# Altium integrated library Infineon_Power_MOSFET.IntLib: 1448 symbols (part 26 of 47)
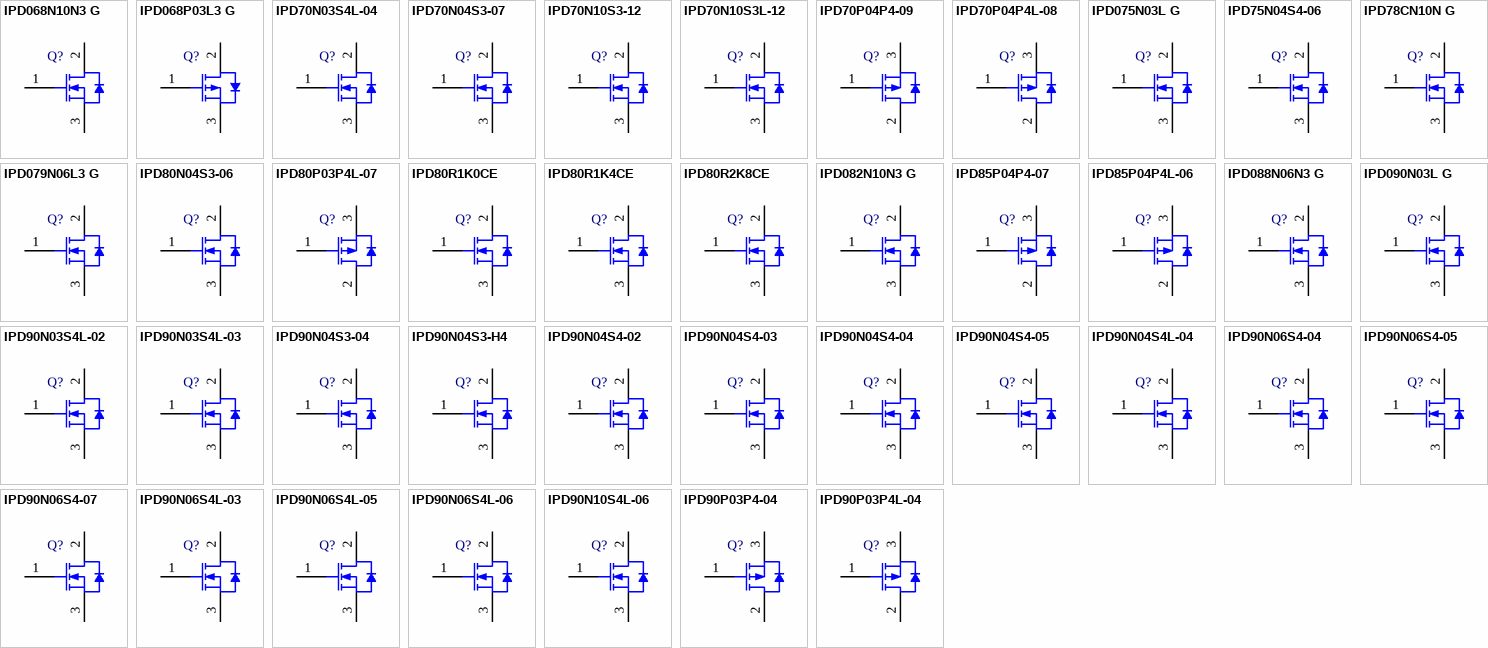
[diagram p62: symbols IPD068N10N3 G to IPD90P03P4L-04]

## IPD082N10N3 G
designator Q?
N-Channel OptiMOS 3 Power-Transistor, 100 V VDS, 80 A ID, -55 to 175 degC, PG-TO252-3-11, Reel, Green; Manufacturer: Infineon; PartNumber: IPD082N10N3 G; Green: TRUE; ID (max): 80 A; IDpuls (max): 320 A; Polarity: N; Ptot (max): 125 W; QG: 42 nC; RDS (on) (max): 8.2 mOhm; Rth: 1.2 K/W; RthJA (max): 62 K/W; VDS (max): 100 V; VGS(th) (max): 3.5 V; VGS(th) (min): 2 V; DatasheetVersion: Rev. 2.5; PackageVersion: Rev. 02, 03/2007; PackageReference: PG-TO252-3-11; PackageDescription: 3-Pin Plastic (Green) Transistor Single Outline Package, 6.57 x 6.1 mm Body, 2.29 mm Pitch; Supplier 1: Mouser; Supplier Part Number 1: 726-IPD082N10N3G; Supplier 2: Digi-Key; Supplier Part Number 2: IPD082N10N3 G-ND; Packing: Reel; RthJC (max): 1.2 K/W; Mounting Technology: Surface Mount; ComponentLink1Description: Manufacturer URL; ComponentLink1URL: http://www.infineon.com/; ComponentLink2Description: Datasheet; ComponentLink2URL: http://www.infineon.com/dgdl/IPP086N10N3+G_Rev2.5.pdf?folderId=db3a304313b8b5a60113cee8763b02d7&fileId=db3a30431ce5fb52011d1ac5c8fa1358; ComponentLink3Description: Package Specification; ComponentLink3URL: http://www.infineon.com/dgdl/IPD160N04L_rev1.0.pdf?folderId=db3a3043163797a6011643468e7505a4&fileId=db3a3043163797a60116436401cf05cf
footprint INF-PG-TO252-3-11_A_N (DPAK, 3-Leads, Body 6.57x6.1mm, Pitch 2.29mm, IPC Medium Density)
footprint INF-PG-TO252-3-11_A_L (DPAK, 3-Leads, Body 6.57x6.1mm, Pitch 2.29mm, IPC High Density)
footprint INF-PG-TO252-3-11_A_M (DPAK, 3-Leads, Body 6.57x6.1mm, Pitch 2.29mm, IPC Low Density)
pins: 1 GATE, 2 DRAIN, 3 SOURCE

## IPD85P04P4-07
designator Q?
OptiMOS-P2 Power-Transistor, -40 V VDS, -85 A ID, PG-TO252-3-313, Reel, Green; Manufacturer: Infineon; PartNumber: IPD85P04P4-07; Green: TRUE; ID (max): -85 A; IDpuls (max): -340 A; Ptot (max): 88 W; QG: 69 nC; RDS (on) (max) (@10V): 7.3 mOhm; RthJC (max): 1.7 K/W; VDS (max): -40 V; VGS(th) (max): -4 V; VGS(th) (min): -2 V; DatasheetVersion: Rev. 1.0; PackageVersion: Oct-10; PackageReference: PG-TO252-3-313; PackageDescription: 3-Pin Plastic (Green) Transistor Single Outline Package, 6.5 x 6.12 mm Body, 2.28 mm Pitch; Supplier 1: Mouser; Supplier Part Number 1: 726-IPD85P04P4-07; Halogen-free: TRUE; Packing: Reel; Technology: OptiMOS-P2; Mounting Technology: Surface Mount; ComponentLink1Description: Manufacturer URL; ComponentLink1URL: http://www.infineon.com/; ComponentLink2Description: Datasheet; ComponentLink2URL: http://www.infineon.com/dgdl/IPD85P04P4-07_DS_10.pdf?folderId=db3a304412b407950112b42b75b74520&fileId=db3a30432f69f146012f782666e92ddd&location=en.Products.Automotive_ICs.Automotive_MOSFETs.Single__P-Channel_40V_MOSFETs.DATASHEET.IPD85P04P4-07_DS_10.pdf; ComponentLink3Description: Package Specification; ComponentLink3URL: http://www.infineon.com/dgdl/PG-TO252-3-313-Package_Overview.pdf?folderId=db3a30432b57a660012b81890ade72d2&fileId=db3a30432b57a660012b8193af2872eb
footprint INF-PG-TO252-3-313_N (DPAK, 3-Leads, Body 6.5x6.12mm, Pitch 2.28mm, IPC Medium Density)
footprint INF-PG-TO252-3-313_L (DPAK, 3-Leads, Body 6.5x6.12mm, Pitch 2.28mm, IPC High Density)
footprint INF-PG-TO252-3-313_M (DPAK, 3-Leads, Body 6.5x6.12mm, Pitch 2.28mm, IPC Low Density)
pins: 1 GATE, 2 DRAIN, 3 SOURCE

## IPD85P04P4L-06
designator Q?
OptiMOS-P2 Power-Transistor, -40 V VDS, -85 A ID, PG-TO252-3-313, Reel, Green; Manufacturer: Infineon; PartNumber: IPD85P04P4L-06; Green: TRUE; ID (max): -85 A; IDpuls (max): -340 A; Ptot (max): 88 W; QG: 80 nC; RDS (on) (max) (@10V): 6.4 mOhm; RDS (on) (max) (@4.5V): 10.3 mOhm; RthJC (max): 1.7 K/W; VDS (max): -40 V; VGS(th) (max): -2.2 V; VGS(th) (min): -1.2 V; DatasheetVersion: Rev. 1.0; PackageVersion: Oct-10; PackageReference: PG-TO252-3-313; PackageDescription: 3-Pin Plastic (Green) Transistor Single Outline Package, 6.5 x 6.12 mm Body, 2.28 mm Pitch; Supplier 1: Mouser; Supplier Part Number 1: 726-IPD85P04P4L-06; Halogen-free: TRUE; Packing: Reel; Technology: OptiMOS-P2; Mounting Technology: Surface Mount; ComponentLink1Description: Manufacturer URL; ComponentLink1URL: http://www.infineon.com/; ComponentLink2Description: Datasheet; ComponentLink2URL: http://www.infineon.com/dgdl/IPD85P04P4L-06_DS10.pdf?folderId=db3a304412b407950112b42b75b74520&fileId=db3a30432f69f146012f7824648a2dc9&location=en.Products.Automotive_ICs.Automotive_MOSFETs.Single__P-Channel_40V_MOSFETs.DATASHEET.IPD85P04P4L-06_DS10.pdf; ComponentLink3Description: Package Specification; ComponentLink3URL: http://www.infineon.com/dgdl/PG-TO252-3-313-Package_Overview.pdf?folderId=db3a30432b57a660012b81890ade72d2&fileId=db3a30432b57a660012b8193af2872eb
footprint INF-PG-TO252-3-313_N (DPAK, 3-Leads, Body 6.5x6.12mm, Pitch 2.28mm, IPC Medium Density)
footprint INF-PG-TO252-3-313_L (DPAK, 3-Leads, Body 6.5x6.12mm, Pitch 2.28mm, IPC High Density)
footprint INF-PG-TO252-3-313_M (DPAK, 3-Leads, Body 6.5x6.12mm, Pitch 2.28mm, IPC Low Density)
pins: 1 GATE, 2 DRAIN, 3 SOURCE

## IPD088N06N3 G
designator Q?
N-Channel OptiMOS 3 Power-Transistor, 60 V VDS, 50 A ID, -55 to 175 degC, PG-TO252-3-11, Reel, Green; Manufacturer: Infineon; PartNumber: IPD088N06N3 G; Green: TRUE; ID (max): 50 A; IDpuls (max): 200 A; Polarity: N; Ptot (max): 71 W; QG: 36 nC; RDS (on) (max): 8.8 mOhm; Rth: 2.1 K/W; RthJA (max): 62 K/W; VDS (max): 60 V; VGS(th) (max): 4 V; VGS(th) (min): 2 V; DatasheetVersion: Rev. 2.0; PackageVersion: Rev. 02, 03/2007; PackageReference: PG-TO252-3-11; PackageDescription: 3-Pin Plastic (Green) Transistor Single Outline Package, 6.57 x 6.1 mm Body, 2.29 mm Pitch; Supplier 1: Mouser; Supplier Part Number 1: 726-IPD088N06N3G; Supplier 2: Digi-Key; Supplier Part Number 2: IPD088N06N3 GTR-ND; Supplier 3: Digi-Key; Supplier Part Number 3: IPD088N06N3 GCT-ND; Supplier 4: Digi-Key; Supplier Part Number 4: IPD088N06N3 GDKR-ND; Packing: Reel; RthJC (max): 2.1 K/W; Mounting Technology: Surface Mount; ComponentLink1Description: Manufacturer URL; ComponentLink1URL: http://www.infineon.com/; ComponentLink2Description: Datasheet; ComponentLink2URL: http://www.infineon.com/dgdl/IPD088N06N3_Rev2.pdf?folderId=db3a30431441fb5d01148ca9f1be0e77&fileId=db3a30431ddc9372011e2b2351db4d5c; ComponentLink3Description: Package Specification; ComponentLink3URL: http://www.infineon.com/dgdl/IPD160N04L_rev1.0.pdf?folderId=db3a3043163797a6011643468e7505a4&fileId=db3a3043163797a60116436401cf05cf
footprint INF-PG-TO252-3-11_A_N (DPAK, 3-Leads, Body 6.57x6.1mm, Pitch 2.29mm, IPC Medium Density)
footprint INF-PG-TO252-3-11_A_L (DPAK, 3-Leads, Body 6.57x6.1mm, Pitch 2.29mm, IPC High Density)
footprint INF-PG-TO252-3-11_A_M (DPAK, 3-Leads, Body 6.57x6.1mm, Pitch 2.29mm, IPC Low Density)
pins: 1 GATE, 2 DRAIN, 3 SOURCE

## IPD090N03L G
designator Q?
N-Channel OptiMOS 3 Power-Transistor, 30 V VDS, 40 A ID, -55 to 175 degC, PG-TO252-3-11, Reel, Green; Manufacturer: Infineon; PartNumber: IPD090N03L G; Green: TRUE; ID (max): 40 A; IDpuls (max): 280 A; Polarity: N; Ptot (max): 42 W; QG: 7.4 nC; RDS (on) (max): 9 mOhm; RDS (on) (max) (@4.5V): 13.5 mOhm; Rth: 3.6 K/W; RthJA (max): 75 K/W; VDS (max): 30 V; VGS(th) (max): 2.2 V; VGS(th) (min): 1 V; DatasheetVersion: Rev. 2.0; PackageVersion: Rev. 02, 03/2007; PackageReference: PG-TO252-3-11; PackageDescription: 3-Pin Plastic (Green) Transistor Single Outline Package, 6.57 x 6.1 mm Body, 2.29 mm Pitch; Supplier 1: Newark; Supplier Part Number 1: 60R2696; Supplier 2: Farnell; Supplier Part Number 2: 1775578; Supplier 3: Digi-Key; Supplier Part Number 3: IPD090N03LGINTR-ND; Supplier 4: Digi-Key; Supplier Part Number 4: IPD090N03LGINCT-ND; Supplier 5: Digi-Key; Supplier Part Number 5: IPD090N03LGINDKR-ND; Halogen-free: TRUE; Packing: Reel; RthJC (max): 3.6 K/W; Mounting Technology: Surface Mount; ComponentLink1Description: Manufacturer URL; ComponentLink1URL: http://www.infineon.com/; ComponentLink2Description: Datasheet; ComponentLink2URL: http://www.infineon.com/dgdl/IPD090N03LG_rev2_.pdf?folderId=db3a304313b8b5a60113cee8763b02d7&fileId=db3a30432313ff5e01239eac54cb707b; ComponentLink3Description: Package Specification; ComponentLink3URL: http://www.infineon.com/dgdl/IPD160N04L_rev1.0.pdf?folderId=db3a3043163797a6011643468e7505a4&fileId=db3a3043163797a60116436401cf05cf
footprint INF-PG-TO252-3-11_A_N (DPAK, 3-Leads, Body 6.57x6.1mm, Pitch 2.29mm, IPC Medium Density)
footprint INF-PG-TO252-3-11_A_L (DPAK, 3-Leads, Body 6.57x6.1mm, Pitch 2.29mm, IPC High Density)
footprint INF-PG-TO252-3-11_A_M (DPAK, 3-Leads, Body 6.57x6.1mm, Pitch 2.29mm, IPC Low Density)
pins: 1 GATE, 2 DRAIN, 3 SOURCE

## IPD90N03S4L-02
designator Q?
OptiMOS-T2 Power-Transistor, 30 V VDS, 90 A ID, PG-TO252-3-11, Reel, Green; Manufacturer: Infineon; PartNumber: IPD90N03S4L-02; Green: TRUE; ID (max): 90 A; IDpuls (max): 360 A; Ptot (max): 136 W; QG: 110 nC; RDS (on) (max) (@10V): 2.2 mOhm; RDS (on) (max) (@4.5V): 2.6 mOhm; RthJC (max): 1.1 K/W; VDS (max): 30 V; VGS(th) (max): 2.2 V; VGS(th) (min): 1 V; DatasheetVersion: Rev. 3.0; PackageVersion: Dec-06; PackageReference: PG-TO252-3-11; PackageDescription: 3-Pin Plastic (Green) Transistor Single Outline Package, 6.5 x 6.12 mm Body, 2.28 mm Pitch; Supplier 1: Mouser; Supplier Part Number 1: 726-IPD90N03S4L-02; Supplier 2: Digi-Key; Supplier Part Number 2: IPD90N03S4L-02TR-ND; Supplier 3: Digi-Key; Supplier Part Number 3: IPD90N03S4L-02CT-ND; Supplier 4: Digi-Key; Supplier Part Number 4: IPD90N03S4L-02DKR-ND; Halogen-free: TRUE; Packing: Reel; Technology: OptiMOS-T2; Mounting Technology: Surface Mount; ComponentLink1Description: Manufacturer URL; ComponentLink1URL: http://www.infineon.com/; ComponentLink2Description: Datasheet; ComponentLink2URL: http://www.infineon.com/dgdl/IPD90N03S4L-02_DS_3_0.pdf?folderId=db3a304412b407950112b426f7da3b27&fileId=db3a304412b407950112b426fa9d3b33&location=en.Products.Automotive_ICs.Automotive_MOSFETs.Single__N-Channel_30V_MOSFETs.DATASHEET.IPD90N03S4L-02_DS_3_0.pdf; ComponentLink3Description: Package Specification; ComponentLink3URL: http://www.infineon.com/dgdl/BTS142_DS_13.pdf?folderId=db3a3043163797a6011667aa084c0e01&fileId=db3a3043163797a6011667ac98be0e02&location=en.Products.Automotive_ICs.Smart_High-_and_Low-Side_Switches.HITFET___TEMPFET__-_Smart_Low-Side_Switches.DATASHEET.BTS142_DS_13.pdf
footprint INF-PG-TO252-3-11_N (DPAK, 3-Leads, Body 6.5x6.12mm, Pitch 2.28mm, IPC Medium Density)
footprint INF-PG-TO252-3-11_L (DPAK, 3-Leads, Body 6.5x6.12mm, Pitch 2.28mm, IPC High Density)
footprint INF-PG-TO252-3-11_M (DPAK, 3-Leads, Body 6.5x6.12mm, Pitch 2.28mm, IPC Low Density)
pins: 1 GATE, 2 DRAIN, 3 SOURCE

## IPD90N03S4L-03
designator Q?
OptiMOS-T2 Power-Transistor, 30 V VDS, 90 A ID, PG-TO252-3-11, Reel, Green; Manufacturer: Infineon; PartNumber: IPD90N03S4L-03; Green: TRUE; ID (max): 90 A; IDpuls (max): 360 A; Ptot (max): 94 W; QG: 60 nC; RDS (on) (max) (@10V): 3.3 mOhm; RDS (on) (max) (@4.5V): 4.4 mOhm; RthJC (max): 1.6 K/W; VDS (max): 30 V; VGS(th) (max): 2.2 V; VGS(th) (min): 1 V; DatasheetVersion: Rev. 2.1; PackageVersion: Dec-06; PackageReference: PG-TO252-3-11; PackageDescription: 3-Pin Plastic (Green) Transistor Single Outline Package, 6.5 x 6.12 mm Body, 2.28 mm Pitch; Supplier 1: Mouser; Supplier Part Number 1: 726-IPD90N03S4L-03; Supplier 2: Digi-Key; Supplier Part Number 2: IPD90N03S4L-03INTR-ND; Supplier 3: Digi-Key; Supplier Part Number 3: IPD90N03S4L-03INCT-ND; Supplier 4: Digi-Key; Supplier Part Number 4: IPD90N03S4L-03INDKR-ND; Halogen-free: TRUE; Packing: Reel; Technology: OptiMOS-T2; Mounting Technology: Surface Mount; ComponentLink1Description: Manufacturer URL; ComponentLink1URL: http://www.infineon.com/; ComponentLink2Description: Datasheet; ComponentLink2URL: http://www.infineon.com/dgdl/IPD90N03S4L-03_DS_2_1.pdf?folderId=db3a304412b407950112b426f7da3b27&fileId=db3a304412b407950112b426fe803b44&location=en.Products.Automotive_ICs.Automotive_MOSFETs.Single__N-Channel_30V_MOSFETs.DATASHEET.IPD90N03S4L-03_DS_2_1.pdf; ComponentLink3Description: Package Specification; ComponentLink3URL: http://www.infineon.com/dgdl/BTS142_DS_13.pdf?folderId=db3a3043163797a6011667aa084c0e01&fileId=db3a3043163797a6011667ac98be0e02&location=en.Products.Automotive_ICs.Smart_High-_and_Low-Side_Switches.HITFET___TEMPFET__-_Smart_Low-Side_Switches.DATASHEET.BTS142_DS_13.pdf
footprint INF-PG-TO252-3-11_N (DPAK, 3-Leads, Body 6.5x6.12mm, Pitch 2.28mm, IPC Medium Density)
footprint INF-PG-TO252-3-11_L (DPAK, 3-Leads, Body 6.5x6.12mm, Pitch 2.28mm, IPC High Density)
footprint INF-PG-TO252-3-11_M (DPAK, 3-Leads, Body 6.5x6.12mm, Pitch 2.28mm, IPC Low Density)
pins: 1 GATE, 2 DRAIN, 3 SOURCE

## IPD90N04S3-04
designator Q?
OptiMOS-T Power-Transistor, 40 V VDS, 90 A ID, PG-TO252-3-11, Reel, Green; Manufacturer: Infineon; PartNumber: IPD90N04S3-04; Green: TRUE; ID (max): 90 A; IDpuls (max): 360 A; Ptot (max): 136 W; QG: 60 nC; RDS (on) (max) (@10V): 3.6 mOhm; RthJC (max): 1.1 K/W; VDS (max): 40 V; VGS(th) (max): 4 V; VGS(th) (min): 2.1 V; DatasheetVersion: Rev. 1.0; PackageVersion: Dec-06; PackageReference: PG-TO252-3-11; PackageDescription: 3-Pin Plastic (Green) Transistor Single Outline Package, 6.5 x 6.12 mm Body, 2.28 mm Pitch; Supplier 1: Mouser; Supplier Part Number 1: 726-IPD90N04S3-04; Supplier 2: Digi-Key; Supplier Part Number 2: IPD90N04S3-04TR-ND; Supplier 3: Digi-Key; Supplier Part Number 3: IPD90N04S3-04CT-ND; Supplier 4: Digi-Key; Supplier Part Number 4: IPD90N04S3-04DKR-ND; Halogen-free: TRUE; Packing: Reel; Technology: OptiMOS-T; Mounting Technology: Surface Mount; ComponentLink1Description: Manufacturer URL; ComponentLink1URL: http://www.infineon.com/; ComponentLink2Description: Datasheet; ComponentLink2URL: http://www.infineon.com/dgdl/IPD90N04S3-04_DS_1_0.pdf?folderId=db3a304412b407950112b42b75b74520&fileId=db3a304412b407950112b42ba3ee45a2&location=en.Products.Automotive_ICs.Automotive_MOSFETs.Single__N-Channel_40V_MOSFETs.DATASHEET.IPD90N04S3-04_DS_1_0.pdf; ComponentLink3Description: Package Specification; ComponentLink3URL: http://www.infineon.com/dgdl/BTS142_DS_13.pdf?folderId=db3a3043163797a6011667aa084c0e01&fileId=db3a3043163797a6011667ac98be0e02&location=en.Products.Automotive_ICs.Smart_High-_and_Low-Side_Switches.HITFET___TEMPFET__-_Smart_Low-Side_Switches.DATASHEET.BTS142_DS_13.pdf
footprint INF-PG-TO252-3-11_N (DPAK, 3-Leads, Body 6.5x6.12mm, Pitch 2.28mm, IPC Medium Density)
footprint INF-PG-TO252-3-11_L (DPAK, 3-Leads, Body 6.5x6.12mm, Pitch 2.28mm, IPC High Density)
footprint INF-PG-TO252-3-11_M (DPAK, 3-Leads, Body 6.5x6.12mm, Pitch 2.28mm, IPC Low Density)
pins: 1 GATE, 2 DRAIN, 3 SOURCE

## IPD90N04S3-H4
designator Q?
OptiMOS-T Power-Transistor, 40 V VDS, 90 A ID, PG-TO252-3-11, Reel, Green; Manufacturer: Infineon; PartNumber: IPD90N04S3-H4; Green: TRUE; ID (max): 90 A; IDpuls (max): 360 A; Ptot (max): 115 W; QG: 46 nC; RDS (on) (max) (@10V): 4.3 mOhm; RDS (on) (max) (@4.5V): 0 mOhm; RthJC (max): 1.3 K/W; VDS (max): 40 V; VGS(th) (max): 4 V; VGS(th) (min): 2.1 V; DatasheetVersion: Rev. 1.0; PackageVersion: Dec-06; PackageReference: PG-TO252-3-11; PackageDescription: 3-Pin Plastic (Green) Transistor Single Outline Package, 6.5 x 6.12 mm Body, 2.28 mm Pitch; Supplier 1: Mouser; Supplier Part Number 1: 726-IPD90N04S3-H4; Supplier 2: Digi-Key; Supplier Part Number 2: IPD90N04S3-H4-ND; Halogen-free: TRUE; Packing: Reel; Technology: OptiMOS-T; Mounting Technology: Surface Mount; ComponentLink1Description: Manufacturer URL; ComponentLink1URL: http://www.infineon.com/; ComponentLink2Description: Datasheet; ComponentLink2URL: http://www.infineon.com/dgdl/p1.pdf?folderId=db3a304412b407950112b42b75b74520&fileId=db3a30431b3e89eb011bb762b9c4070c&location=en.Products.Automotive_ICs.Automotive_MOSFETs.Single__N-Channel_40V_MOSFETs.DATASHEET.p1.pdf; ComponentLink3Description: Package Specification; ComponentLink3URL: http://www.infineon.com/dgdl/BTS142_DS_13.pdf?folderId=db3a3043163797a6011667aa084c0e01&fileId=db3a3043163797a6011667ac98be0e02&location=en.Products.Automotive_ICs.Smart_High-_and_Low-Side_Switches.HITFET___TEMPFET__-_Smart_Low-Side_Switches.DATASHEET.BTS142_DS_13.pdf
footprint INF-PG-TO252-3-11_N (DPAK, 3-Leads, Body 6.5x6.12mm, Pitch 2.28mm, IPC Medium Density)
footprint INF-PG-TO252-3-11_L (DPAK, 3-Leads, Body 6.5x6.12mm, Pitch 2.28mm, IPC High Density)
footprint INF-PG-TO252-3-11_M (DPAK, 3-Leads, Body 6.5x6.12mm, Pitch 2.28mm, IPC Low Density)
pins: 1 GATE, 2 DRAIN, 3 SOURCE

## IPD90N04S4-02
designator Q?
OptiMOS-T2 Power-Transistor, 40 V VDS, 90 A ID, PG-TO252-3-313, Reel, Green; Manufacturer: Infineon; PartNumber: IPD90N04S4-02; Green: TRUE; ID (max): 90 A; IDpuls (max): 360 A; Ptot (max): 150 W; QG: 91 nC; RDS (on) (max) (@10V): 2.4 mOhm; RthJC (max): 1 K/W; VDS (max): 40 V; VGS(th) (max): 4 V; VGS(th) (min): 2 V; DatasheetVersion: Rev. 1.0; PackageVersion: Oct-10; PackageReference: PG-TO252-3-313; PackageDescription: 3-Pin Plastic (Green) Transistor Single Outline Package, 6.5 x 6.12 mm Body, 2.28 mm Pitch; Supplier 1: Mouser; Supplier Part Number 1: 726-IPD90N04S4-02; Supplier 2: Digi-Key; Supplier Part Number 2: IPD90N04S4-02-ND; Halogen-free: TRUE; Packing: Reel; Technology: OptiMOS-T2; Mounting Technology: Surface Mount; ComponentLink1Description: Manufacturer URL; ComponentLink1URL: http://www.infineon.com/; ComponentLink2Description: Datasheet; ComponentLink2URL: http://www.infineon.com/dgdl/IPD90N04S4-02_DS_1_0.pdf?folderId=db3a304412b407950112b42b75b74520&fileId=db3a304328c6bd5c01291c8ad7945e5c&location=en.Products.Automotive_ICs.Automotive_MOSFETs.Single__N-Channel_40V_MOSFETs.DATASHEET.IPD90N04S4-02_DS_1_0.pdf; ComponentLink3Description: Package Specification; ComponentLink3URL: http://www.infineon.com/dgdl/PG-TO252-3-313-Package_Overview.pdf?folderId=db3a30432b57a660012b81890ade72d2&fileId=db3a30432b57a660012b8193af2872eb
footprint INF-PG-TO252-3-313_N (DPAK, 3-Leads, Body 6.5x6.12mm, Pitch 2.28mm, IPC Medium Density)
footprint INF-PG-TO252-3-313_L (DPAK, 3-Leads, Body 6.5x6.12mm, Pitch 2.28mm, IPC High Density)
footprint INF-PG-TO252-3-313_M (DPAK, 3-Leads, Body 6.5x6.12mm, Pitch 2.28mm, IPC Low Density)
pins: 1 GATE, 2 DRAIN, 3 SOURCE

## IPD90N04S4-03
designator Q?
OptiMOS-T2 Power-Transistor, 40 V VDS, 90 A ID, PG-TO252-3-313, Reel, Green; Manufacturer: Infineon; PartNumber: IPD90N04S4-03; Green: TRUE; ID (max): 90 A; IDpuls (max): 360 A; Ptot (max): 94 W; QG: 51 nC; RDS (on) (max) (@10V): 3.2 mOhm; RthJC (max): 1.6 K/W; VDS (max): 40 V; VGS(th) (max): 4 V; VGS(th) (min): 2 V; DatasheetVersion: Rev. 1.0; PackageVersion: Oct-10; PackageReference: PG-TO252-3-313; PackageDescription: 3-Pin Plastic (Green) Transistor Single Outline Package, 6.5 x 6.12 mm Body, 2.28 mm Pitch; Supplier 1: Mouser; Supplier Part Number 1: 726-IPD90N04S4-03; Supplier 2: Digi-Key; Supplier Part Number 2: IPD90N04S4-03-ND; Halogen-free: TRUE; Packing: Reel; Technology: OptiMOS-T2; Mounting Technology: Surface Mount; ComponentLink1Description: Manufacturer URL; ComponentLink1URL: http://www.infineon.com/; ComponentLink2Description: Datasheet; ComponentLink2URL: http://www.infineon.com/dgdl/IPD90N04S4-03_DS_1_0.pdf?folderId=db3a304412b407950112b42b75b74520&fileId=db3a304328c6bd5c01291ca399955e75&location=en.Products.Automotive_ICs.Automotive_MOSFETs.Single__N-Channel_40V_MOSFETs.DATASHEET.IPD90N04S4-03_DS_1_0.pdf; ComponentLink3Description: Package Specification; ComponentLink3URL: http://www.infineon.com/dgdl/PG-TO252-3-313-Package_Overview.pdf?folderId=db3a30432b57a660012b81890ade72d2&fileId=db3a30432b57a660012b8193af2872eb
footprint INF-PG-TO252-3-313_N (DPAK, 3-Leads, Body 6.5x6.12mm, Pitch 2.28mm, IPC Medium Density)
footprint INF-PG-TO252-3-313_L (DPAK, 3-Leads, Body 6.5x6.12mm, Pitch 2.28mm, IPC High Density)
footprint INF-PG-TO252-3-313_M (DPAK, 3-Leads, Body 6.5x6.12mm, Pitch 2.28mm, IPC Low Density)
pins: 1 GATE, 2 DRAIN, 3 SOURCE

## IPD90N04S4-04
designator Q?
OptiMOS-T2 Power-Transistor, 40 V VDS, 90 A ID, PG-TO252-3-313, Reel, Green; Manufacturer: Infineon; PartNumber: IPD90N04S4-04; Green: TRUE; ID (max): 90 A; IDpuls (max): 360 A; Ptot (max): 71 W; QG: 33 nC; RDS (on) (max) (@10V): 4.1 mOhm; RthJC (max): 2.1 K/W; VDS (max): 40 V; VGS(th) (max): 4 V; VGS(th) (min): 2 V; DatasheetVersion: Rev. 1.0; PackageVersion: Oct-10; PackageReference: PG-TO252-3-313; PackageDescription: 3-Pin Plastic (Green) Transistor Single Outline Package, 6.5 x 6.12 mm Body, 2.28 mm Pitch; Supplier 1: Mouser; Supplier Part Number 1: 726-IPD90N04S4-04; Supplier 2: Digi-Key; Supplier Part Number 2: IPD90N04S4-04-ND; Halogen-free: TRUE; Packing: Reel; Technology: OptiMOS-T2; Mounting Technology: Surface Mount; ComponentLink1Description: Manufacturer URL; ComponentLink1URL: http://www.infineon.com/; ComponentLink2Description: Datasheet; ComponentLink2URL: http://www.infineon.com/dgdl/IPD90N04S4-04_DS_1_0.pdf?folderId=db3a304412b407950112b42b75b74520&fileId=db3a304328c6bd5c01291ca629525e87&location=en.Products.Automotive_ICs.Automotive_MOSFETs.Single__N-Channel_40V_MOSFETs.DATASHEET.IPD90N04S4-04_DS_1_0.pdf; ComponentLink3Description: Package Specification; ComponentLink3URL: http://www.infineon.com/dgdl/PG-TO252-3-313-Package_Overview.pdf?folderId=db3a30432b57a660012b81890ade72d2&fileId=db3a30432b57a660012b8193af2872eb
footprint INF-PG-TO252-3-313_N (DPAK, 3-Leads, Body 6.5x6.12mm, Pitch 2.28mm, IPC Medium Density)
footprint INF-PG-TO252-3-313_L (DPAK, 3-Leads, Body 6.5x6.12mm, Pitch 2.28mm, IPC High Density)
footprint INF-PG-TO252-3-313_M (DPAK, 3-Leads, Body 6.5x6.12mm, Pitch 2.28mm, IPC Low Density)
pins: 1 GATE, 2 DRAIN, 3 SOURCE

## IPD90N04S4-05
designator Q?
OptiMOS-T2 Power-Transistor, 40 V VDS, 86 A ID, PG-TO252-3-313, Reel, Green; Manufacturer: Infineon; PartNumber: IPD90N04S4-05; Green: TRUE; ID (max): 90 A; IDpuls (max): 344 A; Ptot (max): 65 W; QG: 33 nC; RDS (on) (max) (@10V): 5.2 mOhm; RthJC (max): 2.3 K/W; VDS (max): 40 V; VGS(th) (max): 4 V; VGS(th) (min): 2 V; DatasheetVersion: Rev. 1.0; PackageVersion: Oct-10; PackageReference: PG-TO252-3-313; PackageDescription: 3-Pin Plastic (Green) Transistor Single Outline Package, 6.5 x 6.12 mm Body, 2.28 mm Pitch; Supplier 1: Mouser; Supplier Part Number 1: 726-IPD90N04S4-05; Supplier 2: Digi-Key; Supplier Part Number 2: IPD90N04S4-05-ND; Halogen-free: TRUE; Packing: Reel; Technology: OptiMOS-T2; Mounting Technology: Surface Mount; ComponentLink1Description: Manufacturer URL; ComponentLink1URL: http://www.infineon.com/; ComponentLink2Description: Datasheet; ComponentLink2URL: http://www.infineon.com/dgdl/IPD90N04S4-05_DS_1_0.pdf?folderId=db3a304412b407950112b42b75b74520&fileId=db3a304328c6bd5c01291ca8f57f5e9a&location=en.Products.Automotive_ICs.Automotive_MOSFETs.Single__N-Channel_40V_MOSFETs.DATASHEET.IPD90N04S4-05_DS_1_0.pdf; ComponentLink3Description: Package Specification; ComponentLink3URL: http://www.infineon.com/dgdl/PG-TO252-3-313-Package_Overview.pdf?folderId=db3a30432b57a660012b81890ade72d2&fileId=db3a30432b57a660012b8193af2872eb
footprint INF-PG-TO252-3-313_N (DPAK, 3-Leads, Body 6.5x6.12mm, Pitch 2.28mm, IPC Medium Density)
footprint INF-PG-TO252-3-313_L (DPAK, 3-Leads, Body 6.5x6.12mm, Pitch 2.28mm, IPC High Density)
footprint INF-PG-TO252-3-313_M (DPAK, 3-Leads, Body 6.5x6.12mm, Pitch 2.28mm, IPC Low Density)
pins: 1 GATE, 2 DRAIN, 3 SOURCE

## IPD90N04S4L-04
designator Q?
OptiMOS-T2 Power-Transistor, 40 V VDS, 90 A ID, PG-TO252-3-313, Reel, Green; Manufacturer: Infineon; PartNumber: IPD90N04S4L-04; Green: TRUE; ID (max): 90 A; IDpuls (max): 360 A; Ptot (max): 71 W; QG: 46 nC; RDS (on) (max) (@10V): 3.8 mOhm; RDS (on) (max) (@4.5V): 5.5 mOhm; RthJC (max): 2.1 K/W; VDS (max): 40 V; VGS(th) (max): 2.2 V; VGS(th) (min): 1.2 V; DatasheetVersion: Rev. 1.0; PackageVersion: Oct-10; PackageReference: PG-TO252-3-313; PackageDescription: 3-Pin Plastic (Green) Transistor Single Outline Package, 6.5 x 6.12 mm Body, 2.28 mm Pitch; Supplier 1: Mouser; Supplier Part Number 1: 726-IPD90N04S4L-04; Supplier 2: Digi-Key; Supplier Part Number 2: IPD90N04S4L-04-ND; Halogen-free: TRUE; Packing: Reel; Technology: OptiMOS-T2; Mounting Technology: Surface Mount; ComponentLink1Description: Manufacturer URL; ComponentLink1URL: http://www.infineon.com/; ComponentLink2Description: Datasheet; ComponentLink2URL: http://www.infineon.com/dgdl/IPD90N04S4L-04_DS_1_0.pdf?folderId=db3a304412b407950112b42b75b74520&fileId=db3a304328c6bd5c01291cab92685eaa&location=en.Products.Automotive_ICs.Automotive_MOSFETs.Single__N-Channel_40V_MOSFETs.DATASHEET.IPD90N04S4L-04_DS_1_0.pdf; ComponentLink3Description: Package Specification; ComponentLink3URL: http://www.infineon.com/dgdl/PG-TO252-3-313-Package_Overview.pdf?folderId=db3a30432b57a660012b81890ade72d2&fileId=db3a30432b57a660012b8193af2872eb
footprint INF-PG-TO252-3-313_N (DPAK, 3-Leads, Body 6.5x6.12mm, Pitch 2.28mm, IPC Medium Density)
footprint INF-PG-TO252-3-313_L (DPAK, 3-Leads, Body 6.5x6.12mm, Pitch 2.28mm, IPC High Density)
footprint INF-PG-TO252-3-313_M (DPAK, 3-Leads, Body 6.5x6.12mm, Pitch 2.28mm, IPC Low Density)
pins: 1 GATE, 2 DRAIN, 3 SOURCE

## IPD90N06S4-04
designator Q?
OptiMOS-T2 Power-Transistor, 60 V VDS, 90 A ID, PG-TO252-3-11, Reel, Green; Manufacturer: Infineon; PartNumber: IPD90N06S4-04; Green: TRUE; ID (max): 90 A; IDpuls (max): 360 A; Ptot (max): 150 W; QG: 99 nC; RDS (on) (max) (@10V): 3.8 mOhm; RthJC (max): 1 K/W; VDS (max): 60 V; VGS(th) (max): 4 V; VGS(th) (min): 2 V; DatasheetVersion: Rev. 1.2; PackageVersion: Dec-06; PackageReference: PG-TO252-3-11; PackageDescription: 3-Pin Plastic (Green) Transistor Single Outline Package, 6.5 x 6.12 mm Body, 2.28 mm Pitch; Supplier 1: Mouser; Supplier Part Number 1: 726-IPD90N06S4-04; Supplier 2: Digi-Key; Supplier Part Number 2: IPD90N06S4-04-ND; Halogen-free: TRUE; Packing: Reel; Technology: OptiMOS-T2; Mounting Technology: Surface Mount; ComponentLink1Description: Manufacturer URL; ComponentLink1URL: http://www.infineon.com/; ComponentLink2Description: Datasheet; ComponentLink2URL: http://www.infineon.com/dgdl/IPD90N06S4-04_DS_12.pdf?folderId=db3a30431a5c32f2011a8084a04a6500&fileId=db3a30431ff9881501203866be410c78&location=en.Products.Automotive_ICs.Automotive_MOSFETs.Single__N-Channel_60V_MOSFETs.DATASHEET.IPD90N06S4-04_DS_12.pdf; ComponentLink3Description: Package Specification; ComponentLink3URL: http://www.infineon.com/dgdl/BTS142_DS_13.pdf?folderId=db3a3043163797a6011667aa084c0e01&fileId=db3a3043163797a6011667ac98be0e02&location=en.Products.Automotive_ICs.Smart_High-_and_Low-Side_Switches.HITFET___TEMPFET__-_Smart_Low-Side_Switches.DATASHEET.BTS142_DS_13.pdf
footprint INF-PG-TO252-3-11_N (DPAK, 3-Leads, Body 6.5x6.12mm, Pitch 2.28mm, IPC Medium Density)
footprint INF-PG-TO252-3-11_L (DPAK, 3-Leads, Body 6.5x6.12mm, Pitch 2.28mm, IPC High Density)
footprint INF-PG-TO252-3-11_M (DPAK, 3-Leads, Body 6.5x6.12mm, Pitch 2.28mm, IPC Low Density)
pins: 1 GATE, 2 DRAIN, 3 SOURCE

## IPD90N06S4-05
designator Q?
OptiMOS-T2 Power-Transistor, 60 V VDS, 90 A ID, PG-TO252-3-11, Reel, Green; Manufacturer: Infineon; PartNumber: IPD90N06S4-05; Green: TRUE; ID (max): 90 A; IDpuls (max): 360 A; Ptot (max): 107 W; QG: 62 nC; RDS (on) (max) (@10V): 5.1 mOhm; RthJC (max): 1.4 K/W; VDS (max): 60 V; VGS(th) (max): 4 V; VGS(th) (min): 2 V; DatasheetVersion: Rev. 1.0; PackageVersion: Dec-06; PackageReference: PG-TO252-3-11; PackageDescription: 3-Pin Plastic (Green) Transistor Single Outline Package, 6.5 x 6.12 mm Body, 2.28 mm Pitch; Supplier 1: Mouser; Supplier Part Number 1: 726-IPD90N06S4-05; Supplier 2: Digi-Key; Supplier Part Number 2: IPD90N06S4-05-ND; Halogen-free: TRUE; Packing: Reel; Technology: OptiMOS-T2; Mounting Technology: Surface Mount; ComponentLink1Description: Manufacturer URL; ComponentLink1URL: http://www.infineon.com/; ComponentLink2Description: Datasheet; ComponentLink2URL: http://www.infineon.com/dgdl/IPD90N06S4-05_DS_10.pdf?folderId=db3a30431a5c32f2011a8084a04a6500&fileId=db3a30431ff988150120386c8da30c82&location=en.Products.Automotive_ICs.Automotive_MOSFETs.Single__N-Channel_60V_MOSFETs.DATASHEET.IPD90N06S4-05_DS_10.pdf; ComponentLink3Description: Package Specification; ComponentLink3URL: http://www.infineon.com/dgdl/BTS142_DS_13.pdf?folderId=db3a3043163797a6011667aa084c0e01&fileId=db3a3043163797a6011667ac98be0e02&location=en.Products.Automotive_ICs.Smart_High-_and_Low-Side_Switches.HITFET___TEMPFET__-_Smart_Low-Side_Switches.DATASHEET.BTS142_DS_13.pdf
footprint INF-PG-TO252-3-11_N (DPAK, 3-Leads, Body 6.5x6.12mm, Pitch 2.28mm, IPC Medium Density)
footprint INF-PG-TO252-3-11_L (DPAK, 3-Leads, Body 6.5x6.12mm, Pitch 2.28mm, IPC High Density)
footprint INF-PG-TO252-3-11_M (DPAK, 3-Leads, Body 6.5x6.12mm, Pitch 2.28mm, IPC Low Density)
pins: 1 GATE, 2 DRAIN, 3 SOURCE

## IPD90N06S4-07
designator Q?
OptiMOS-T2 Power-Transistor, 60 V VDS, 90 A ID, PG-TO252-3-11, Reel, Green; Manufacturer: Infineon; PartNumber: IPD90N06S4-07; Green: TRUE; ID (max): 90 A; IDpuls (max): 360 A; Ptot (max): 79 W; QG: 43 nC; RDS (on) (max) (@10V): 6.9 mOhm; RthJC (max): 1.9 K/W; VDS (max): 60 V; VGS(th) (max): 4 V; VGS(th) (min): 2 V; DatasheetVersion: Rev. 1.0; PackageVersion: Dec-06; PackageReference: PG-TO252-3-11; PackageDescription: 3-Pin Plastic (Green) Transistor Single Outline Package, 6.5 x 6.12 mm Body, 2.28 mm Pitch; Supplier 1: Mouser; Supplier Part Number 1: 726-IPD90N06S4-07; Supplier 2: Digi-Key; Supplier Part Number 2: IPD90N06S4-07-ND; Halogen-free: TRUE; Packing: Reel; Technology: OptiMOS-T2; Mounting Technology: Surface Mount; ComponentLink1Description: Manufacturer URL; ComponentLink1URL: http://www.infineon.com/; ComponentLink2Description: Datasheet; ComponentLink2URL: http://www.infineon.com/dgdl/IPD90N06S4-07_DS_10.pdf?folderId=db3a30431a5c32f2011a8084a04a6500&fileId=db3a30431ff988150120386e3b5b0c87&location=en.Products.Automotive_ICs.Automotive_MOSFETs.Single__N-Channel_60V_MOSFETs.DATASHEET.IPD90N06S4-07_DS_10.pdf; ComponentLink3Description: Package Specification; ComponentLink3URL: http://www.infineon.com/dgdl/BTS142_DS_13.pdf?folderId=db3a3043163797a6011667aa084c0e01&fileId=db3a3043163797a6011667ac98be0e02&location=en.Products.Automotive_ICs.Smart_High-_and_Low-Side_Switches.HITFET___TEMPFET__-_Smart_Low-Side_Switches.DATASHEET.BTS142_DS_13.pdf
footprint INF-PG-TO252-3-11_N (DPAK, 3-Leads, Body 6.5x6.12mm, Pitch 2.28mm, IPC Medium Density)
footprint INF-PG-TO252-3-11_L (DPAK, 3-Leads, Body 6.5x6.12mm, Pitch 2.28mm, IPC High Density)
footprint INF-PG-TO252-3-11_M (DPAK, 3-Leads, Body 6.5x6.12mm, Pitch 2.28mm, IPC Low Density)
pins: 1 GATE, 2 DRAIN, 3 SOURCE

## IPD90N06S4L-03
designator Q?
OptiMOS-T2 Power-Transistor, 60 V VDS, 90 A ID, PG-TO252-3-11, Reel, Green; Manufacturer: Infineon; PartNumber: IPD90N06S4L-03; Green: TRUE; ID (max): 90 A; IDpuls (max): 360 A; Ptot (max): 150 W; QG: 133 nC; RDS (on) (max) (@10V): 3.5 mOhm; RDS (on) (max) (@4.5V): 5.5 mOhm; RthJC (max): 1 K/W; VDS (max): 60 V; VGS(th) (max): 2 V; VGS(th) (min): 1.2 V; DatasheetVersion: Rev. 1.0; PackageVersion: Dec-06; PackageReference: PG-TO252-3-11; PackageDescription: 3-Pin Plastic (Green) Transistor Single Outline Package, 6.5 x 6.12 mm Body, 2.28 mm Pitch; Supplier 1: Mouser; Supplier Part Number 1: 726-IPD90N06S4L-03; Supplier 2: Digi-Key; Supplier Part Number 2: IPD90N06S4L-03-ND; Halogen-free: TRUE; Packing: Reel; Technology: OptiMOS-T2; Mounting Technology: Surface Mount; ComponentLink1Description: Manufacturer URL; ComponentLink1URL: http://www.infineon.com/; ComponentLink2Description: Datasheet; ComponentLink2URL: http://www.infineon.com/dgdl/IPD90N06S4L-03_DS_10.pdf?folderId=db3a30431a5c32f2011a8084a04a6500&fileId=db3a30431ff9881501203869e3b30c7d&location=en.Products.Automotive_ICs.Automotive_MOSFETs.Single__N-Channel_60V_MOSFETs.DATASHEET.IPD90N06S4L-03_DS_10.pdf; ComponentLink3Description: Package Specification; ComponentLink3URL: http://www.infineon.com/dgdl/BTS142_DS_13.pdf?folderId=db3a3043163797a6011667aa084c0e01&fileId=db3a3043163797a6011667ac98be0e02&location=en.Products.Automotive_ICs.Smart_High-_and_Low-Side_Switches.HITFET___TEMPFET__-_Smart_Low-Side_Switches.DATASHEET.BTS142_DS_13.pdf
footprint INF-PG-TO252-3-11_N (DPAK, 3-Leads, Body 6.5x6.12mm, Pitch 2.28mm, IPC Medium Density)
footprint INF-PG-TO252-3-11_L (DPAK, 3-Leads, Body 6.5x6.12mm, Pitch 2.28mm, IPC High Density)
footprint INF-PG-TO252-3-11_M (DPAK, 3-Leads, Body 6.5x6.12mm, Pitch 2.28mm, IPC Low Density)
pins: 1 GATE, 2 DRAIN, 3 SOURCE

## IPD90N06S4L-05
designator Q?
OptiMOS-T2 Power-Transistor, 60 V VDS, 90 A ID, PG-TO252-3-11, Reel, Green; Manufacturer: Infineon; PartNumber: IPD90N06S4L-05; Green: TRUE; ID (max): 90 A; IDpuls (max): 360 A; Ptot (max): 107 W; QG: 83 nC; RDS (on) (max) (@10V): 4.6 mOhm; RDS (on) (max) (@4.5V): 8 mOhm; RthJC (max): 1.4 K/W; VDS (max): 60 V; VGS(th) (max): 2 V; VGS(th) (min): 1.2 V; DatasheetVersion: Rev. 1.0; PackageVersion: Dec-06; PackageReference: PG-TO252-3-11; PackageDescription: 3-Pin Plastic (Green) Transistor Single Outline Package, 6.5 x 6.12 mm Body, 2.28 mm Pitch; Supplier 1: Mouser; Supplier Part Number 1: 726-IPD90N06S4L-05; Supplier 2: Digi-Key; Supplier Part Number 2: IPD90N06S4L-05-ND; Halogen-free: TRUE; Packing: Reel; Technology: OptiMOS-T2; Mounting Technology: Surface Mount; ComponentLink1Description: Manufacturer URL; ComponentLink1URL: http://www.infineon.com/; ComponentLink2Description: Datasheet; ComponentLink2URL: http://www.infineon.com/dgdl/IPD90N06S4L-05_DS_10.pdf?folderId=db3a30431a5c32f2011a8084a04a6500&fileId=db3a30431ff98815012038729a180c91&location=en.Products.Automotive_ICs.Automotive_MOSFETs.Single__N-Channel_60V_MOSFETs.DATASHEET.IPD90N06S4L-05_DS_10.pdf; ComponentLink3Description: Package Specification; ComponentLink3URL: http://www.infineon.com/dgdl/BTS142_DS_13.pdf?folderId=db3a3043163797a6011667aa084c0e01&fileId=db3a3043163797a6011667ac98be0e02&location=en.Products.Automotive_ICs.Smart_High-_and_Low-Side_Switches.HITFET___TEMPFET__-_Smart_Low-Side_Switches.DATASHEET.BTS142_DS_13.pdf
footprint INF-PG-TO252-3-11_N (DPAK, 3-Leads, Body 6.5x6.12mm, Pitch 2.28mm, IPC Medium Density)
footprint INF-PG-TO252-3-11_L (DPAK, 3-Leads, Body 6.5x6.12mm, Pitch 2.28mm, IPC High Density)
footprint INF-PG-TO252-3-11_M (DPAK, 3-Leads, Body 6.5x6.12mm, Pitch 2.28mm, IPC Low Density)
pins: 1 GATE, 2 DRAIN, 3 SOURCE

## IPD90N06S4L-06
designator Q?
OptiMOS-T2 Power-Transistor, 60 V VDS, 90 A ID, PG-TO252-3-11, Reel, Green; Manufacturer: Infineon; PartNumber: IPD90N06S4L-06; Green: TRUE; ID (max): 90 A; IDpuls (max): 360 A; Ptot (max): 79 W; QG: 58 nC; RDS (on) (max) (@10V): 6.3 mOhm; RDS (on) (max) (@4.5V): 11 mOhm; RthJC (max): 1.9 K/W; VDS (max): 60 V; VGS(th) (max): 2 V; VGS(th) (min): 1.2 V; DatasheetVersion: Rev. 1.0; PackageVersion: Dec-06; PackageReference: PG-TO252-3-11; PackageDescription: 3-Pin Plastic (Green) Transistor Single Outline Package, 6.5 x 6.12 mm Body, 2.28 mm Pitch; Supplier 1: Mouser; Supplier Part Number 1: 726-IPD90N06S4L-06; Supplier 2: Digi-Key; Supplier Part Number 2: IPD90N06S4L-06-ND; Halogen-free: TRUE; Packing: Reel; Technology: OptiMOS-T2; Mounting Technology: Surface Mount; ComponentLink1Description: Manufacturer URL; ComponentLink1URL: http://www.infineon.com/; ComponentLink2Description: Datasheet; ComponentLink2URL: http://www.infineon.com/dgdl/IPD90N06S4L-06_DS_10.pdf?folderId=db3a30431a5c32f2011a8084a04a6500&fileId=db3a30431ff98815012038818b620c96&location=en.Products.Automotive_ICs.Automotive_MOSFETs.Single__N-Channel_60V_MOSFETs.DATASHEET.IPD90N06S4L-06_DS_10.pdf; ComponentLink3Description: Package Specification; ComponentLink3URL: http://www.infineon.com/dgdl/BTS142_DS_13.pdf?folderId=db3a3043163797a6011667aa084c0e01&fileId=db3a3043163797a6011667ac98be0e02&location=en.Products.Automotive_ICs.Smart_High-_and_Low-Side_Switches.HITFET___TEMPFET__-_Smart_Low-Side_Switches.DATASHEET.BTS142_DS_13.pdf
footprint INF-PG-TO252-3-11_N (DPAK, 3-Leads, Body 6.5x6.12mm, Pitch 2.28mm, IPC Medium Density)
footprint INF-PG-TO252-3-11_L (DPAK, 3-Leads, Body 6.5x6.12mm, Pitch 2.28mm, IPC High Density)
footprint INF-PG-TO252-3-11_M (DPAK, 3-Leads, Body 6.5x6.12mm, Pitch 2.28mm, IPC Low Density)
pins: 1 GATE, 2 DRAIN, 3 SOURCE

## IPD90N10S4L-06
designator Q?
OptiMOS-T2 Power-Transistor, 100 V VDS, 90 A ID, PG-TO252-3-313, Reel, Green; Manufacturer: Infineon; PartNumber: IPD90N10S4L-06; Green: TRUE; ID (max): 90 A; IDpuls (max): 360 A; Ptot (max): 136 W; QG: 75 nC; RDS (on) (max) (@10V): 6.6 mOhm; RDS (on) (max) (@4.5V): 8.1 mOhm; RthJC (max): 1.1 K/W; VDS (max): 100 V; VGS(th) (max): 2.1 V; VGS(th) (min): 1.1 V; DatasheetVersion: Rev. 1.0; PackageVersion: Oct-10; PackageReference: PG-TO252-3-313; PackageDescription: 3-Pin Plastic (Green) Transistor Single Outline Package, 6.5 x 6.12 mm Body, 2.28 mm Pitch; Halogen-free: TRUE; Packing: Reel; Technology: OptiMOS-T2; Mounting Technology: Surface Mount; ComponentLink1Description: Manufacturer URL; ComponentLink1URL: http://www.infineon.com/; ComponentLink2Description: Datasheet; ComponentLink2URL: http://www.infineon.com/dgdl/IPD90N10S4L-06_DS_1_0.pdf?folderId=db3a3043156fd5730115c7d50620107c&fileId=db3a3043372d5cc80137500063630512&location=en.Products.Automotive_ICs.Automotive_MOSFETs.Single__N-Channel_100V_MOSFETs.DATASHEET.IPD90N10S4L-06_DS_1_0.pdf; ComponentLink3Description: Package Specification; ComponentLink3URL: http://www.infineon.com/dgdl/PG-TO252-3-313-Package_Overview.pdf?folderId=db3a30432b57a660012b81890ade72d2&fileId=db3a30432b57a660012b8193af2872eb
footprint INF-PG-TO252-3-313_N (DPAK, 3-Leads, Body 6.5x6.12mm, Pitch 2.28mm, IPC Medium Density)
footprint INF-PG-TO252-3-313_L (DPAK, 3-Leads, Body 6.5x6.12mm, Pitch 2.28mm, IPC High Density)
footprint INF-PG-TO252-3-313_M (DPAK, 3-Leads, Body 6.5x6.12mm, Pitch 2.28mm, IPC Low Density)
pins: 1 GATE, 2 DRAIN, 3 SOURCE

## IPD90P03P4-04
designator Q?
OptiMOS-P2 Power-Transistor, -30 V VDS, -90 A ID, PG-TO252-3-11, Reel, Green; Manufacturer: Infineon; PartNumber: IPD90P03P4-04; Green: TRUE; ID (max): -90 A; IDpuls (max): -360 A; Ptot (max): 137 W; QG: 100 nC; RDS (on) (max) (@10V): 4.5 mOhm; RthJC (max): 1.1 K/W; VDS (max): -30 V; VGS(th) (max): -4 V; VGS(th) (min): -2 V; DatasheetVersion: Rev. 1.0; PackageVersion: Dec-06; PackageReference: PG-TO252-3-11; PackageDescription: 3-Pin Plastic (Green) Transistor Single Outline Package, 6.5 x 6.12 mm Body, 2.28 mm Pitch; Supplier 1: Mouser; Supplier Part Number 1: 726-IPD90P03P404; Supplier 2: Digi-Key; Supplier Part Number 2: IPD90P03P4-04INTR-ND; Supplier 3: Digi-Key; Supplier Part Number 3: IPD90P03P4-04INCT-ND; Supplier 4: Digi-Key; Supplier Part Number 4: IPD90P03P4-04INDKR-ND; Halogen-free: TRUE; Packing: Reel; Technology: OptiMOS-P2; Mounting Technology: Surface Mount; ComponentLink1Description: Manufacturer URL; ComponentLink1URL: http://www.infineon.com/; ComponentLink2Description: Datasheet; ComponentLink2URL: http://www.infineon.com/dgdl/IPD90P03P4-04_DS_10.pdf?folderId=db3a304314dca3890114ef902baa05f9&fileId=db3a30431ddc9372011e07ecafdb27ed&location=en.Products.Automotive_ICs.Automotive_MOSFETs.Single__P-Channel_30V_MOSFETs.DATASHEET.IPD90P03P4-04_DS_10.pdf; ComponentLink3Description: Package Specification; ComponentLink3URL: http://www.infineon.com/dgdl/BTS142_DS_13.pdf?folderId=db3a3043163797a6011667aa084c0e01&fileId=db3a3043163797a6011667ac98be0e02&location=en.Products.Automotive_ICs.Smart_High-_and_Low-Side_Switches.HITFET___TEMPFET__-_Smart_Low-Side_Switches.DATASHEET.BTS142_DS_13.pdf
footprint INF-PG-TO252-3-11_N (DPAK, 3-Leads, Body 6.5x6.12mm, Pitch 2.28mm, IPC Medium Density)
footprint INF-PG-TO252-3-11_L (DPAK, 3-Leads, Body 6.5x6.12mm, Pitch 2.28mm, IPC High Density)
footprint INF-PG-TO252-3-11_M (DPAK, 3-Leads, Body 6.5x6.12mm, Pitch 2.28mm, IPC Low Density)
pins: 1 GATE, 2 DRAIN, 3 SOURCE

## IPD90P03P4L-04
designator Q?
OptiMOS-P2 Power-Transistor, -30 V VDS, -90 A ID, PG-TO252-3-11, Reel, Green; Manufacturer: Infineon; PartNumber: IPD90P03P4L-04; Green: TRUE; ID (max): -90 A; IDpuls (max): -360 A; Ptot (max): 137 W; QG: 125 nC; RDS (on) (max) (@10V): 4.1 mOhm; RDS (on) (max) (@4.5V): 6.8 mOhm; RthJC (max): 1.1 K/W; VDS (max): -30 V; VGS(th) (max): -2 V; VGS(th) (min): -1 V; DatasheetVersion: Rev. 1.0; PackageVersion: Dec-06; PackageReference: PG-TO252-3-11; PackageDescription: 3-Pin Plastic (Green) Transistor Single Outline Package, 6.5 x 6.12 mm Body, 2.28 mm Pitch; Supplier 1: Mouser; Supplier Part Number 1: 726-IPD90P03P4L04; Supplier 2: Newark; Supplier Part Number 2: 79X1438; Supplier 3: Farnell; Supplier Part Number 3: 2432731; Supplier 4: Digi-Key; Supplier Part Number 4: IPD90P03P4L-04INTR-ND; Supplier 5: Digi-Key; Supplier Part Number 5: IPD90P03P4L-04INCT-ND; Supplier 6: Digi-Key; Supplier Part Number 6: IPD90P03P4L-04INDKR-ND; Halogen-free: TRUE; Packing: Reel; Technology: OptiMOS-P2; Mounting Technology: Surface Mount; ComponentLink1Description: Manufacturer URL; ComponentLink1URL: http://www.infineon.com/; ComponentLink2Description: Datasheet; ComponentLink2URL: http://www.infineon.com/dgdl/IPD90P03P4L-04_DS_10.pdf?folderId=db3a304314dca3890114ef902baa05f9&fileId=db3a30431ddc9372011e07e8373a27c4&location=en.Products.Automotive_ICs.Automotive_MOSFETs.Single__P-Channel_30V_MOSFETs.DATASHEET.IPD90P03P4L-04_DS_10.pdf; ComponentLink3Description: Package Specification; ComponentLink3URL: http://www.infineon.com/dgdl/BTS142_DS_13.pdf?folderId=db3a3043163797a6011667aa084c0e01&fileId=db3a3043163797a6011667ac98be0e02&location=en.Products.Automotive_ICs.Smart_High-_and_Low-Side_Switches.HITFET___TEMPFET__-_Smart_Low-Side_Switches.DATASHEET.BTS142_DS_13.pdf
footprint INF-PG-TO252-3-11_N (DPAK, 3-Leads, Body 6.5x6.12mm, Pitch 2.28mm, IPC Medium Density)
footprint INF-PG-TO252-3-11_L (DPAK, 3-Leads, Body 6.5x6.12mm, Pitch 2.28mm, IPC High Density)
footprint INF-PG-TO252-3-11_M (DPAK, 3-Leads, Body 6.5x6.12mm, Pitch 2.28mm, IPC Low Density)
pins: 1 GATE, 2 DRAIN, 3 SOURCE

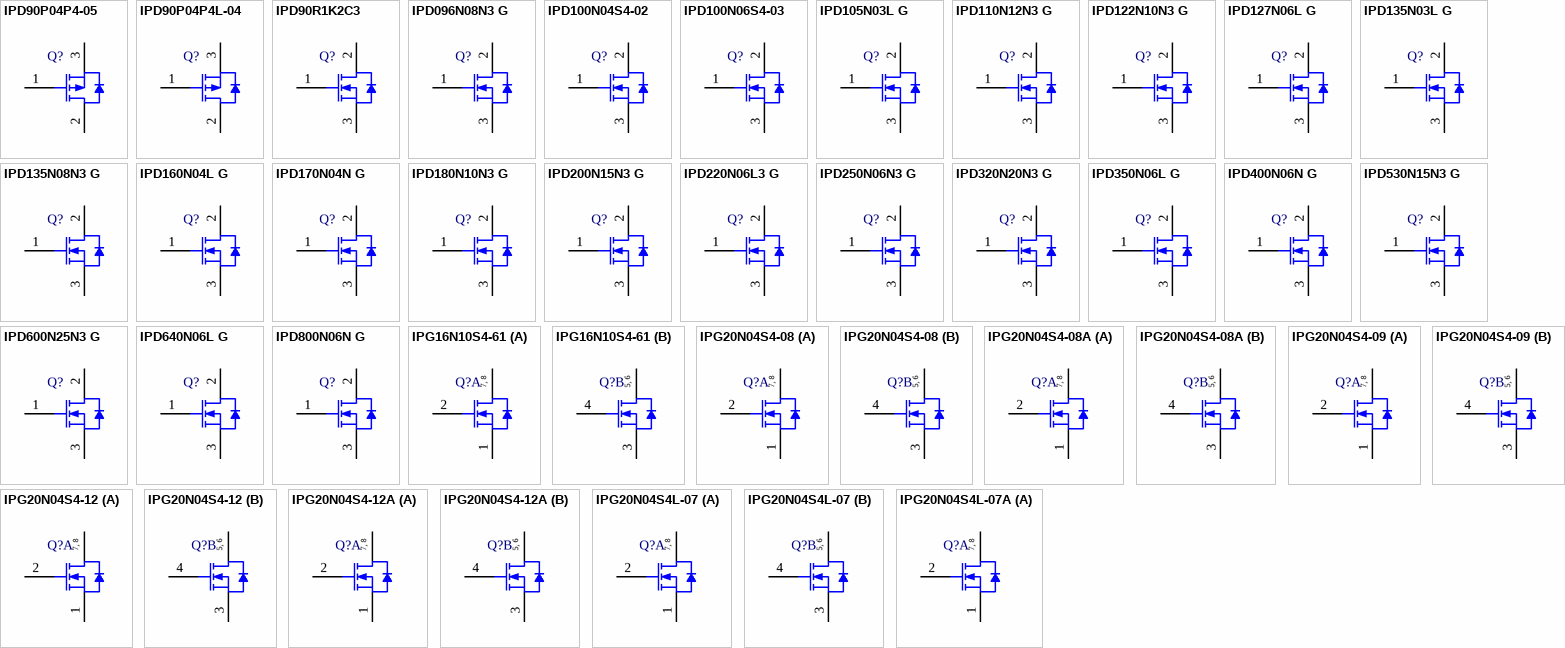
[diagram p20: symbols IPD90P04P4-05 to IPG20N04S4L-07A]

## IPD90P04P4-05
designator Q?
OptiMOS-P2 Power-Transistor, -40 V VDS, -90 A ID, PG-TO252-3-313, Reel, Green; Manufacturer: Infineon; PartNumber: IPD90P04P4-05; Green: TRUE; ID (max): -90 A; IDpuls (max): -360 A; Ptot (max): 125 W; QG: 118 nC; RDS (on) (max) (@10V): 4.7 mOhm; RthJC (max): 1.2 K/W; VDS (max): -40 V; VGS(th) (max): -4 V; VGS(th) (min): -2 V; DatasheetVersion: Rev. 1.0; PackageVersion: Oct-10; PackageReference: PG-TO252-3-313; PackageDescription: 3-Pin Plastic (Green) Transistor Single Outline Package, 6.5 x 6.12 mm Body, 2.28 mm Pitch; Supplier 1: Mouser; Supplier Part Number 1: 726-IPD90P04P4-05; Halogen-free: TRUE; Packing: Reel; Technology: OptiMOS-P2; Mounting Technology: Surface Mount; ComponentLink1Description: Manufacturer URL; ComponentLink1URL: http://www.infineon.com/; ComponentLink2Description: Datasheet; ComponentLink2URL: http://www.infineon.com/dgdl/IPD90P04P4-05_DS_10.pdf?folderId=db3a304412b407950112b42b75b74520&fileId=db3a304329a0f6ee0129dbba2b4d5c79&location=en.Products.Automotive_ICs.Automotive_MOSFETs.Single__P-Channel_40V_MOSFETs.DATASHEET.IPD90P04P4-05_DS_10.pdf; ComponentLink3Description: Package Specification; ComponentLink3URL: http://www.infineon.com/dgdl/PG-TO252-3-313-Package_Overview.pdf?folderId=db3a30432b57a660012b81890ade72d2&fileId=db3a30432b57a660012b8193af2872eb
footprint INF-PG-TO252-3-313_N (DPAK, 3-Leads, Body 6.5x6.12mm, Pitch 2.28mm, IPC Medium Density)
footprint INF-PG-TO252-3-313_L (DPAK, 3-Leads, Body 6.5x6.12mm, Pitch 2.28mm, IPC High Density)
footprint INF-PG-TO252-3-313_M (DPAK, 3-Leads, Body 6.5x6.12mm, Pitch 2.28mm, IPC Low Density)
pins: 1 GATE, 2 DRAIN, 3 SOURCE

## IPD90P04P4L-04
designator Q?
OptiMOS-P2 Power-Transistor, -40 V VDS, -90 A ID, PG-TO252-3-313, Reel, Green; Manufacturer: Infineon; PartNumber: IPD90P04P4L-04; Green: TRUE; ID (max): -90 A; IDpuls (max): -360 A; Ptot (max): 125 W; QG: 135 nC; RDS (on) (max) (@10V): 4.3 mOhm; RDS (on) (max) (@4.5V): 6.6 mOhm; RthJC (max): 1.2 K/W; VDS (max): -40 V; VGS(th) (max): -2.2 V; VGS(th) (min): -1.2 V; DatasheetVersion: Rev. 1.0; PackageVersion: Oct-10; PackageReference: PG-TO252-3-313; PackageDescription: 3-Pin Plastic (Green) Transistor Single Outline Package, 6.5 x 6.12 mm Body, 2.28 mm Pitch; Supplier 1: Mouser; Supplier Part Number 1: 726-IPD90P04P4L-04; Halogen-free: TRUE; Packing: Reel; Technology: OptiMOS-P2; Mounting Technology: Surface Mount; ComponentLink1Description: Manufacturer URL; ComponentLink1URL: http://www.infineon.com/; ComponentLink2Description: Datasheet; ComponentLink2URL: http://www.infineon.com/dgdl/IPD90P04P4L-04_DS10.pdf?folderId=db3a304412b407950112b42b75b74520&fileId=db3a30432f69f146012f7829059b2dee&location=en.Products.Automotive_ICs.Automotive_MOSFETs.Single__P-Channel_40V_MOSFETs.DATASHEET.IPD90P04P4L-04_DS10.pdf; ComponentLink3Description: Package Specification; ComponentLink3URL: http://www.infineon.com/dgdl/PG-TO252-3-313-Package_Overview.pdf?folderId=db3a30432b57a660012b81890ade72d2&fileId=db3a30432b57a660012b8193af2872eb
footprint INF-PG-TO252-3-313_N (DPAK, 3-Leads, Body 6.5x6.12mm, Pitch 2.28mm, IPC Medium Density)
footprint INF-PG-TO252-3-313_L (DPAK, 3-Leads, Body 6.5x6.12mm, Pitch 2.28mm, IPC High Density)
footprint INF-PG-TO252-3-313_M (DPAK, 3-Leads, Body 6.5x6.12mm, Pitch 2.28mm, IPC Low Density)
pins: 1 GATE, 2 DRAIN, 3 SOURCE

## IPD90R1K2C3
designator Q?
N-Channel CoolMOS Power-Transistor, 900 V VDS, 5.1 A ID, -55 to 150 degC, PG-TO252-3-1, Reel, Green; Manufacturer: Infineon; PartNumber: IPD90R1K2C3; Green: TRUE; ID (max): 5.1 A; IDpuls (max): 10 A; Polarity: N; Ptot (max): 83 W; QG: 28 nC; RDS (on) (max): 1,200 mOhm; Rth: 1.5 K/W; RthJA (max): 62 K/W; VDS (max): 900 V; VGS(th) (max): 3.5 V; VGS(th) (min): 2.5 V; DatasheetVersion: Rev. 1.0; PackageVersion: Jan-10; PackageReference: PG-TO252-3-1; PackageDescription: 3-Pin Plastic (Green) Transistor Single Outline Package, 6.5 x 6.12 mm Body, 2.28 mm Pitch; Supplier 1: Mouser; Supplier Part Number 1: 726-IPD90R1K2C3; Supplier 2: Newark; Supplier Part Number 2: 33P7146; Supplier 3: Farnell; Supplier Part Number 3: 1664030; Supplier 4: Farnell; Supplier Part Number 4: 1664030RL; Supplier 5: Digi-Key; Supplier Part Number 5: IPD90R1K2C3TR-ND; Supplier 6: Digi-Key; Supplier Part Number 6: IPD90R1K2C3CT-ND; Supplier 7: Digi-Key; Supplier Part Number 7: IPD90R1K2C3DKR-ND; Packing: Reel; RthJC (max): 1.5 K/W; Technology: CoolMOS C3; Mounting Technology: Surface Mount; ComponentLink1Description: Manufacturer URL; ComponentLink1URL: http://www.infineon.com/; ComponentLink2Description: Datasheet; ComponentLink2URL: http://www.infineon.com/dgdl/IPD90R1K2C3_1.0.pdf?folderId=db3a3043156fd5730115c736bcc70ff2&fileId=db3a30431b3e89eb011b8cf0d9b60fdc; ComponentLink3Description: Package Specification; ComponentLink3URL: http://www.infineon.com/dgdl/TLE42744_DS_11.pdf?folderId=db3a304318f3fe290118f5a433570040&fileId=db3a304327b897500128012ccafe37d2&sId=db3a30443d67b5ca013d83f7c0ea327b
footprint INF-PG-TO252-3-1_N (DPAK, 3-Leads, Body 6.525x6.12mm, Pitch 2.28mm, IPC Medium Density)
footprint INF-PG-TO252-3-1_L (DPAK, 3-Leads, Body 6.525x6.12mm, Pitch 2.28mm, IPC High Density)
footprint INF-PG-TO252-3-1_M (DPAK, 3-Leads, Body 6.525x6.12mm, Pitch 2.28mm, IPC Low Density)
pins: 1 GATE, 2 DRAIN, 3 SOURCE

## IPD096N08N3 G
designator Q?
N-Channel OptiMOS 3 Power-Transistor, 80 V VDS, 73 A ID, -55 to 175 degC, PG-TO252-3-11, Reel, Green; Manufacturer: Infineon; PartNumber: IPD096N08N3 G; Green: TRUE; ID (max): 73 A; IDpuls (max): 292 A; Polarity: N; Ptot (max): 100 W; QG: 26 nC; RDS (on) (max): 9.6 mOhm; Rth: 1.5 K/W; RthJA (max): 75 K/W; VDS (max): 80 V; VGS(th) (max): 3.5 V; VGS(th) (min): 2 V; DatasheetVersion: Rev. 2.1; PackageVersion: Rev. 02, 03/2007; PackageReference: PG-TO252-3-11; PackageDescription: 3-Pin Plastic (Green) Transistor Single Outline Package, 6.57 x 6.1 mm Body, 2.29 mm Pitch; Supplier 1: Mouser; Supplier Part Number 1: 726-IPD096N08N3G; Supplier 2: Digi-Key; Supplier Part Number 2: IPD096N08N3 G-ND; Packing: Reel; RthJC (max): 1.5 K/W; Mounting Technology: Surface Mount; ComponentLink1Description: Manufacturer URL; ComponentLink1URL: http://www.infineon.com/; ComponentLink2Description: Datasheet; ComponentLink2URL: http://www.infineon.com/dgdl/IPD096N08N3_Rev2+1.pdf?folderId=db3a304313b8b5a60113cee8763b02d7&fileId=db3a30431ce5fb52011d1f35150315fe; ComponentLink3Description: Package Specification; ComponentLink3URL: http://www.infineon.com/dgdl/IPD160N04L_rev1.0.pdf?folderId=db3a3043163797a6011643468e7505a4&fileId=db3a3043163797a60116436401cf05cf
footprint INF-PG-TO252-3-11_A_N (DPAK, 3-Leads, Body 6.57x6.1mm, Pitch 2.29mm, IPC Medium Density)
footprint INF-PG-TO252-3-11_A_L (DPAK, 3-Leads, Body 6.57x6.1mm, Pitch 2.29mm, IPC High Density)
footprint INF-PG-TO252-3-11_A_M (DPAK, 3-Leads, Body 6.57x6.1mm, Pitch 2.29mm, IPC Low Density)
pins: 1 GATE, 2 DRAIN, 3 SOURCE